# EAGLE library part IP42220CZ6 (library trafshlib)
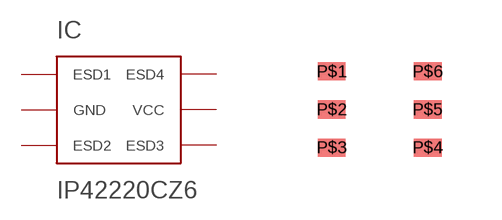
[diagram p6: symbol with the pads of SOT457; footprint SOT457]

Designator prefix IC

## IP42220CZ6  [SOT457]
P$1  ESD1
P$2  GND  pwr
P$3  ESD2
P$4  ESD3
P$5  VCC  pwr
P$6  ESD4

## Footprint SOT457 (pad centres in mm)
smd 0.7 x 0.45: P$1 -1.2,0.95; P$2 -1.2,0; P$3 -1.2,-0.95; P$4 1.2,-0.95; P$5 1.2,0; P$6 1.2,0.95